# EAGLE library part PE4259 (library GLEE_packages)
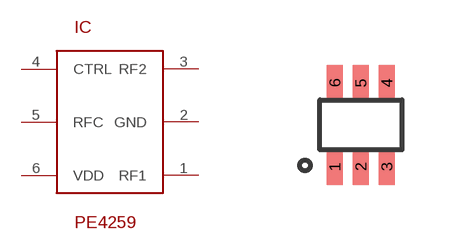
[diagram p4: symbol with the pads of PE4259; footprint PE4259]

Designator prefix IC

## PE4259  [PE4259]
1  RF1
2  GND
3  RF2
4  CTRL
5  RFC
6  VDD

## Footprint PE4259 (pad centres in mm)
smd 0.4 x 0.9: 1 -0.65,-1.05; 2 0,-1.05; 3 0.65,-1.05; 4 0.65,1.05; 5 0,1.05; 6 -0.65,1.05